# EAGLE library part CC3000 (library arno)
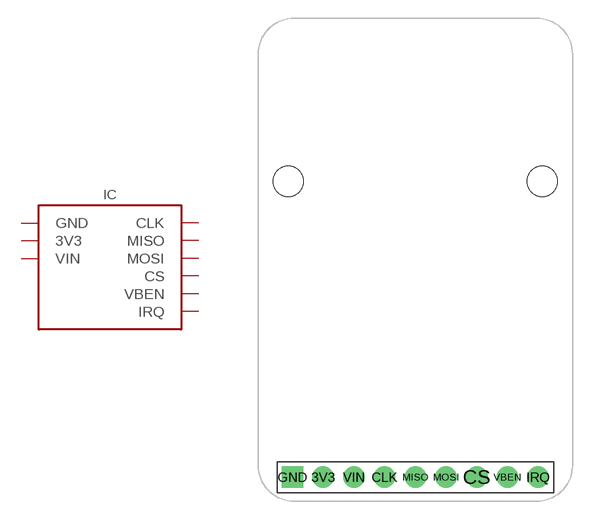
[diagram p18: symbol with the pads of ADAFRUIT-CC3000-BR; footprint ADAFRUIT-CC3000-BR]

Designator prefix IC

## CC3000-BREAKOUT  [ADAFRUIT-CC3000-BR]
3V3  3V3
CLK  CLK
CS  CS
GND  GND  sup
IRQ  IRQ
MISO  MISO
MOSI  MOSI
VBEN  VBEN
VIN  VIN  sup

## Footprint ADAFRUIT-CC3000-BR (pad centres in mm)
drill 1.016 pad 1.778: 3V3 5.38,2; CLK 10.46,2; CS 18.08,2; IRQ 23.16,2; MISO 13,2; MOSI 15.54,2; VBEN 20.62,2; VIN 7.92,2
drill 1.016 pad 1.778 square: GND 2.84,2
hole 2.5 at 2.5,26.5
hole 2.5 at 23.5,26.5